# Altium footprint library EugenesLib.PcbLib: 14 footprints
Each footprint in its own frame and in the unit in brackets; x right, y up, seen from the top. Pads: shape width x height; smd on the part's side, far side on the other; paste and mask are expansions set on the pad; w line width, h text height; cw(c..) or ccw(c..) is an arc to the next point about the centre after c.
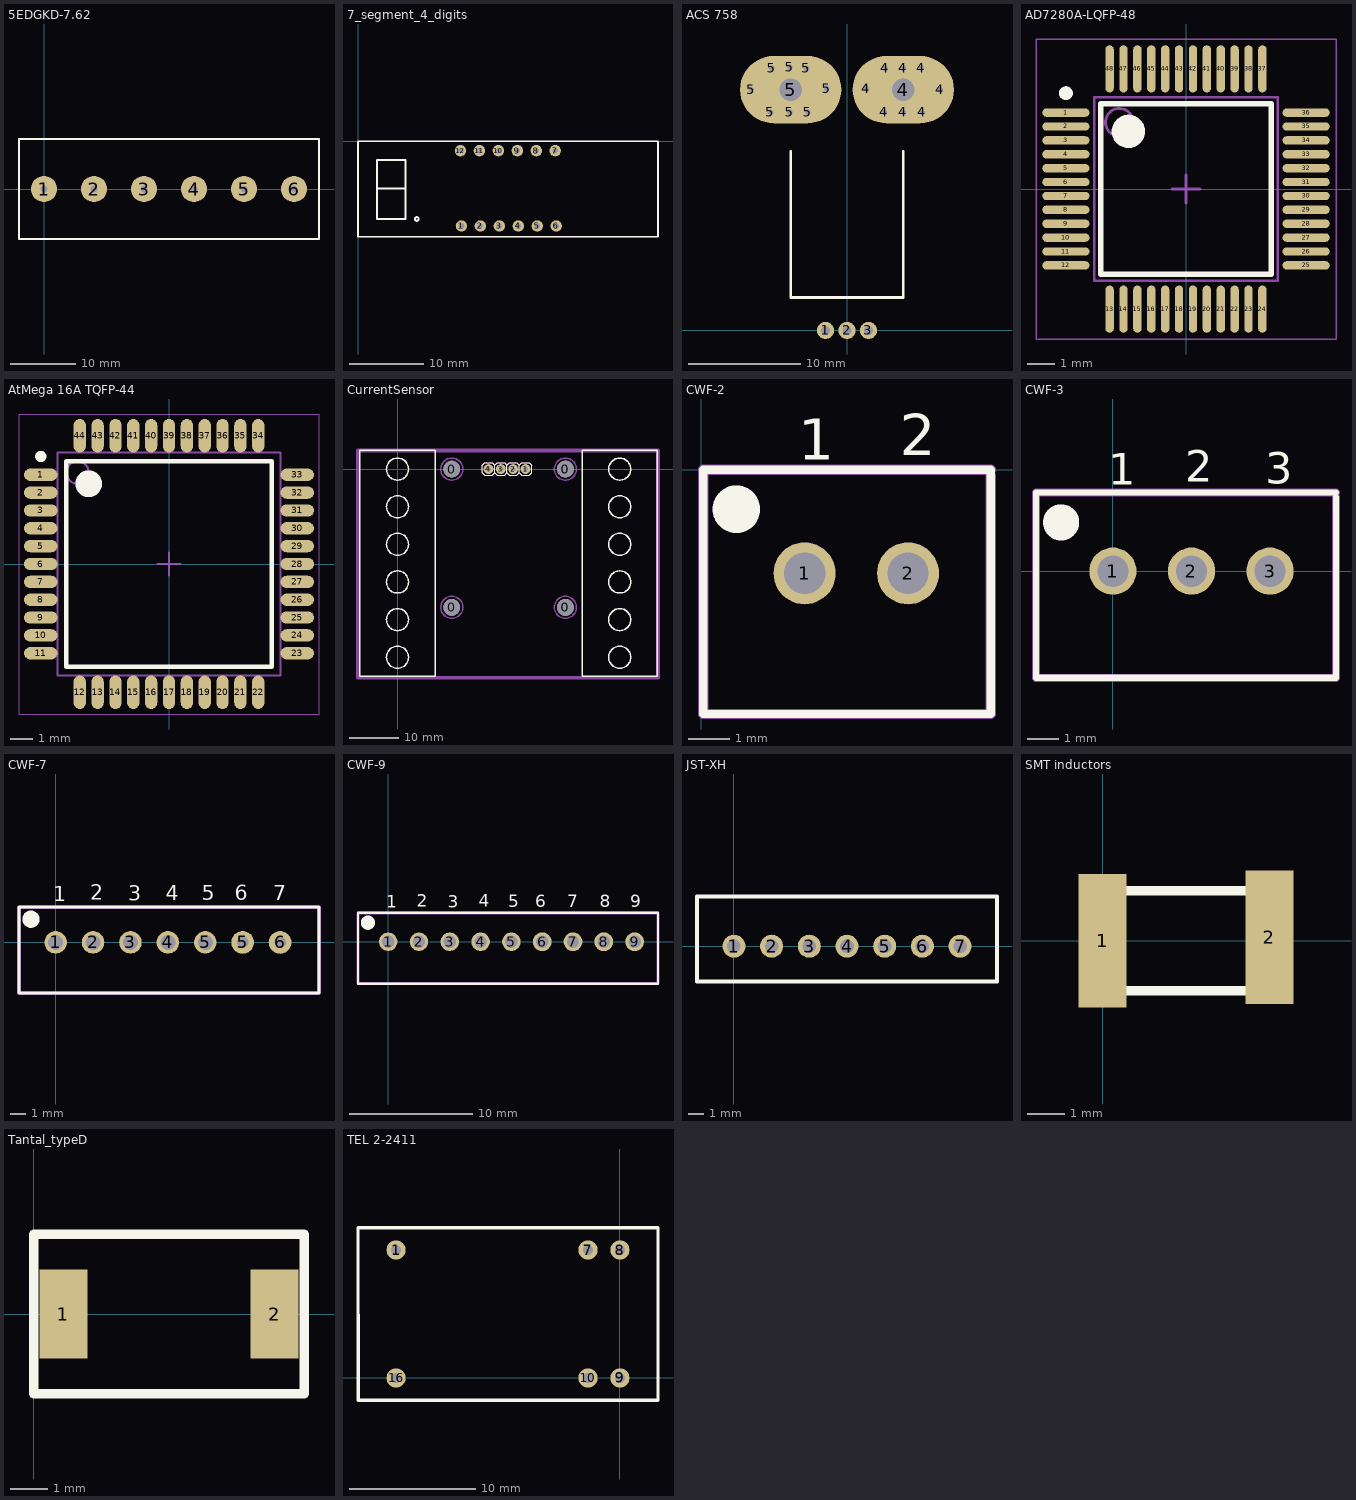
[diagram p0: the footprints below, top view; thin cyan lines are the x and y axes]

## 5EDGKD-7.62 [mm]
pads (6):
  round 4 hole 1: 1(0,0) 2(7.62,0) 3(15.24,0) 4(22.86,0) 5(30.48,0) 6(38.1,0)
Top Overlay:
  lines w0.254: -3.81,-7.62 41.91,-7.62 41.91,7.62 -3.81,7.62 -3.81,-7.62

## 7_segment_4_digits [mil]
pads (12):
  round 60 hole 30: 1(545.28,-446.85) 2(645.28,-446.85) 3(745.28,-446.85) 4(845.28,-446.85) 5(945.28,-446.85) 6(1045.28,-446.85) 7(1040,-50) 8(940,-50) 9(840,-50) 10(740,-50) 11(640,-50) 12(540,-50)
Top Overlay:
  circle w10: c310,-410 r10
  lines w10: 100,-250 245,-250 ; 0,-503.94 0,0 1581.89,0 1581.89,-503.94 0,-503.94 ; 100,-410 100,-100 250,-100 250,-410 100,-410

## ACS 758 [mm] "ACS 758"
height 7
pads (21):
  round 1.524 hole 0.8: 1(-1.91,0) 2(0,0) 3(1.91,0)
  round 1.524 hole 0.5: 4(1.7,21.5) 4(3.3,19.4) 4(3.4,23.3) 4(5,19.4) 4(5,23.3) 4(6.6,23.3) 4(6.7,19.4) 4(8.3,21.4) 5(-8.5,21.4) 5(-6.8,19.4) 5(-6.7,23.3) 5(-5.1,19.4) 5(-5.1,23.4) 5(-3.6,23.3) 5(-3.5,19.4) 5(-1.8,21.5)
  rrect100% 9x6 hole 2 square: 4(5,21.4) 5(-5,21.4)
Top Overlay:
  lines w0.254: -5,15.921 -5,2.921 5,2.921 5,15.921
3D body "ACS758.STEP": height 7, standoff -3.5, extent -7,-0.254 7,22.096

## AD7280A-LQFP-48 [mm] "AD7280A-LQFP-48"
height 1.6
pads (48):
  oval 1.7x0.3 smd: 1(-4.325,2.75) 2(-4.325,2.25) 3(-4.325,1.75) 4(-4.325,1.25) 5(-4.325,0.75) 6(-4.325,0.25) 7(-4.325,-0.25) 8(-4.325,-0.75) 9(-4.325,-1.25) 10(-4.325,-1.75) 11(-4.325,-2.25) 12(-4.325,-2.75) 25(4.325,-2.75) 26(4.325,-2.25) 27(4.325,-1.75) 28(4.325,-1.25) 29(4.325,-0.75) 30(4.325,-0.25) 31(4.325,0.25) 32(4.325,0.75) 33(4.325,1.25) 34(4.325,1.75) 35(4.325,2.25) 36(4.325,2.75)
  oval 0.3x1.7 smd: 13(-2.75,-4.325) 14(-2.25,-4.325) 15(-1.75,-4.325) 16(-1.25,-4.325) 17(-0.75,-4.325) 18(-0.25,-4.325) 19(0.25,-4.325) 20(0.75,-4.325) 21(1.25,-4.325) 22(1.75,-4.325) 23(2.25,-4.325) 24(2.75,-4.325) 37(2.75,4.325) 38(2.25,4.325) 39(1.75,4.325) 40(1.25,4.325) 41(0.75,4.325) 42(0.25,4.325) 43(-0.25,4.325) 44(-0.75,4.325) 45(-1.25,4.325) 46(-1.75,4.325) 47(-2.25,4.325) 48(-2.75,4.325)
Top Overlay:
  circle w0.6: c-2.075,2.075 r0.3
  circle w0.25: c-4.325,3.45 r0.125
  lines w0.2: -3.075,-3.075 3.075,-3.075 3.075,3.075 -3.075,3.075 -3.075,-3.075
Mechanical 13:
  circle w0.1: c-2.4,2.4 r0.5
  lines w0.1: -3.3,-3.3 3.3,-3.3 3.3,3.3 -3.3,3.3 -3.3,-3.3
Mechanical 15:
  lines w0.05: -5.4,-5.4 5.4,-5.4 5.4,5.4 -5.4,5.4 -5.4,-5.4
  lines w0.1: -0.5,0 0.5,0 ; 0,-0.5 0,0.5
3D body "AD7280A-LQFP-48.step": height 1.6, standoff 0, extent -4.5,-4.5 4.5,4.5

## AtMega 16A TQFP-44 [mm] "TQFP, 44-Leads, Body 10,00x10,00mm, Pitch 0,80mm, IPC Medium Density"
height 1.2
pads (44):
  oval 1.5x0.55 smd: 1(-5.75,4) 2(-5.75,3.2) 3(-5.75,2.4) 4(-5.75,1.6) 5(-5.75,0.8) 6(-5.75,0) 7(-5.75,-0.8) 8(-5.75,-1.6) 9(-5.75,-2.4) 10(-5.75,-3.2) 11(-5.75,-4) 23(5.75,-4) 24(5.75,-3.2) 25(5.75,-2.4) 26(5.75,-1.6) 27(5.75,-0.8) 28(5.75,0) 29(5.75,0.8) 30(5.75,1.6) 31(5.75,2.4) 32(5.75,3.2) 33(5.75,4)
  oval 0.55x1.5 smd: 12(-4,-5.75) 13(-3.2,-5.75) 14(-2.4,-5.75) 15(-1.6,-5.75) 16(-0.8,-5.75) 17(0,-5.75) 18(0.8,-5.75) 19(1.6,-5.75) 20(2.4,-5.75) 21(3.2,-5.75) 22(4,-5.75) 34(4,5.75) 35(3.2,5.75) 36(2.4,5.75) 37(1.6,5.75) 38(0.8,5.75) 39(0,5.75) 40(-0.8,5.75) 41(-1.6,5.75) 42(-2.4,5.75) 43(-3.2,5.75) 44(-4,5.75)
Top Overlay:
  circle w0.25: c-5.75,4.825 r0.125
  circle w0.6: c-3.6,3.6 r0.3
  lines w0.2: -4.6,-4.6 -4.6,4.6 4.6,4.6 4.6,-4.6 -4.6,-4.6
Mechanical 13:
  circle w0.1: c-4.1,4.1 r0.5
  lines w0.1: -5,-5 -5,5 5,5 5,-5 -5,-5
Mechanical 15:
  lines w0.05: -6.725,-6.725 -6.725,6.725 6.725,6.725 6.725,-6.725 -6.725,-6.725
  lines w0.1: -0.5,0 0.5,0 ; 0,-0.5 0,0.5
3D body "AtMega 16A TQFP-44.step": height 1.2, standoff 0, extent -6,-6 6,6

## CurrentSensor [mm]
pads (8):
  round 3.4 hole 3.4 unplated: 0(11,-28) 0(11,0) 0(34,-28) 0(34,0)
  round 2 hole 1: 1(25.92,0) 2(23.42,0) 3(20.92,0) 4(18.42,0)
Top Overlay:
  circle w0.254: c45,-38.1 r2.236
  circle w0.254: c45,-30.48 r2.236
  circle w0.254: c45,-22.86 r2.236
  circle w0.254: c45,-15.24 r2.236
  circle w0.254: c45,-7.62 r2.236
  circle w0.254: c45,0 r2.236
  circle w0.254: c0,-38.1 r2.236
  circle w0.254: c0,-30.48 r2.236
  circle w0.254: c0,-22.86 r2.236
  circle w0.254: c0,-15.24 r2.236
  circle w0.254: c0,-7.62 r2.236
  circle w0.254: c0,0 r2.236
  lines w0.2: 19.67,-0.75 19.67,0.75 ; 19.67,-0.75 19.17,-1.25 17.67,-1.25 17.17,-0.75 17.17,0.75 17.67,1.25 19.17,1.25 19.67,0.75 ; 19.67,-0.75 20.17,-1.25 21.67,-1.25 22.17,-0.75 ; 19.67,0.75 20.17,1.25 21.67,1.25 22.17,0.75 ; 22.17,-0.75 22.67,-1.25 24.17,-1.25 24.67,-0.75 ; 22.17,-0.75 22.17,0.75 ; 22.17,0.75 22.67,1.25 24.17,1.25 24.67,0.75 ; 24.67,-0.75 24.67,0.75 ; 24.67,-0.75 25.17,-1.25 26.67,-1.25 27.17,-0.75 27.17,0.75 26.67,1.25 25.17,1.25 24.67,0.75
  lines w0.254: -7.62,-41.91 -7.62,3.81 7.62,3.81 7.62,-41.91 -7.62,-41.91 ; 37.38,-41.91 37.38,3.81 52.62,3.81 52.62,-41.91 37.38,-41.91
Mechanical 1:
  circle w0.254: c11,0 r2.236
  circle w0.254: c34,0 r2.236
  circle w0.254: c34,-28 r2.236
  circle w0.254: c11,-28 r2.236
  lines w0.8: -8,-42.25 52.75,-42.25 52.75,3.75 -8,3.75 -8,-42.25
Mechanical 4:
  lines w0.2: 19.69,-0.75 20.19,-1.25 21.69,-1.25 22.19,-0.75 ; 19.69,-0.75 19.69,0.75 ; 19.69,-0.75 19.19,-1.25 17.69,-1.25 17.19,-0.75 17.19,0.75 17.69,1.25 19.19,1.25 19.69,0.75 ; 19.69,-0.75 19.69,0.75 ; 19.69,0.75 20.19,1.25 21.69,1.25 22.19,0.75 ; 22.19,-0.75 22.69,-1.25 24.19,-1.25 24.69,-0.75 ; 22.19,-0.75 22.19,0.75 ; 22.19,-0.75 22.19,0.75 ; 22.19,0.75 22.69,1.25 24.19,1.25 24.69,0.75 ; 24.69,-0.75 25.19,-1.25 26.69,-1.25 27.19,-0.75 27.19,0.75 26.69,1.25 25.19,1.25 24.69,0.75 ; 24.69,-0.75 24.69,0.75 ; 24.69,-0.75 24.69,0.75
3D body "User Library-PLS-1.STEP": height 8.44, standoff -3, extent 17.07,-1.27 19.61,1.27
3D body "User Library-PLS-1.STEP": height 8.44, standoff -3, extent 24.65,-1.27 27.19,1.27
3D body "User Library-PLS-1.STEP": height 8.44, standoff -3, extent 22.11,-1.27 24.65,1.27
3D body "User Library-PLS-1.STEP": height 8.44, standoff -3, extent 19.57,-1.27 22.11,1.27

## CWF-2 [mm]
pads (2):
  round 1.5 hole 1: 1(2.5,-2.5) 2(5,-2.5)
Top Overlay:
  circle w0.75: c0.85,-0.95 r0.2
  lines w0.2: 0.05,-5.9 7,-5.9 7,0 0.05,0 0.05,-5.9
  text "2" at 4.8,0.35 h1
  text "1" at 2.35,0.25 h1
Mechanical 4:
  lines w0.25: 7,-0.15 7,-5.9 0.05,-5.9 0.05,0 7,0
  text ".Designator" at 0.4,-4.9 h2.15

## CWF-3 [mm]
pads (3):
  round 1.5 hole 1: 1(0,0) 2(2.5,0) 3(5,0)
Top Overlay:
  circle w0.75: c-1.65,1.55 r0.2
  lines w0.2: 7.1,2.35 7.1,-3.4 -2.45,-3.4 -2.45,2.5 7.1,2.5
  text "1" at -0.15,2.75 h1
  text "2" at 2.3,2.85 h1
  text "3" at 4.85,2.775 h1
Mechanical 4:
  lines w0.25: 7.1,2.35 7.1,-3.4 -2.45,-3.4 -2.45,2.5 7.1,2.5
  text ".Designator" at -2.1,-2.4 h2.15

## CWF-7 [mm]
pads (7):
  round 1.5 hole 1: 1(0,0) 2(2.5,0) 3(5,0) 4(7.5,0) 5(10,0)
  round 1.524 hole 0.762: 5(12.5,0) 6(15,0)
Top Overlay:
  circle w0.75: c-1.65,1.55 r0.2
  lines w0.2: -2.45,-3.4 -2.45,2.35 9.95,2.35 17.6,2.35 17.6,-3.4 -2.45,-3.4
  text "7" at 14.554,2.819 h1
  text "6" at 11.954,2.819 h1
  text "1" at -0.15,2.75 h1
  text "2" at 2.3,2.85 h1
  text "3" at 4.85,2.775 h1
  text "4" at 7.35,2.825 h1
  text "5" at 9.754,2.819 h1
Mechanical 4:
  lines w0.25: -2.45,-3.4 17.6,-3.4 17.6,2.35 9.95,2.35 -2.45,2.35 -2.45,-3.4
  text ".Designator" at 0.7,-2 h2.15
3D body "cwf-5.STEP": height 7, standoff -2.35, extent -2.55,-3.375 12.35,2.375

## CWF-9 [mm]
pads (9):
  round 1.5 hole 1: 1(0,0) 2(2.5,0) 3(5,0) 4(7.5,0) 5(10,0)
  round 1.524 hole 1: 6(12.5,0) 7(15,0) 8(17.5,0) 9(20,0)
Top Overlay:
  circle w0.75: c-1.65,1.55 r0.2
  lines w0.2: -2.45,-3.4 -2.45,2.35 9.95,2.35 21.9,2.35 21.9,-3.4 -2.45,-3.4
  text "9" at 19.654,2.819 h1
  text "8" at 17.154,2.819 h1
  text "7" at 14.554,2.819 h1
  text "6" at 11.954,2.819 h1
  text "1" at -0.15,2.75 h1
  text "2" at 2.3,2.85 h1
  text "3" at 4.85,2.775 h1
  text "4" at 7.35,2.825 h1
  text "5" at 9.754,2.819 h1
Mechanical 4:
  lines w0.25: -2.45,-3.4 21.9,-3.4 21.9,2.35 9.95,2.35 -2.45,2.35 -2.45,-3.4
  text ".Designator" at 0.7,-2 h2.15
3D body "cwf-5.STEP": height 7, standoff -2.35, extent -2.55,-3.375 12.35,2.375

## JST-XH [mil]
height 275.59
pads (7):
  round 60 hole 35.43: 1(0,0) 2(98.43,0) 3(196.85,0) 4(295.28,0) 5(393.7,0) 6(492.13,0) 7(590.55,0)
Top Overlay:
  lines w10: 685.04,-92.52 -96.46,-92.52 -96.46,129.92 687.01,129.92 687.01,-92.52
3D body "B7B-XH-A.STEP": height 275.59, standoff -133.86, extent -96.45,-93.5 687.01,132.88

## SMT inductors [mm]
pads (2):
  rect 1.3x3.6 smd: 1(0,0) 2(4.5,0.1)
Top Overlay:
  lines w0.254: 4.5,1.3 4.5,-1.35 0,-1.35 0,1.35 4.5,1.35

## Tantal_typeD [mm]
pads (2):
  rect 1.3x2.4 smd: 1(0.8,0) 2(6.5,0)
Top Overlay:
  lines w0.254: 0,-2.15 7.3,-2.15 7.3,2.15 0,2.15 0,-2.15

## TEL 2-2411 [mil]
pads (6):
  round 60 hole 30: 1(-700,400) 7(-100,400) 8(0,400) 9(0,0) 10(-100,0) 16(-700,0)
Top Overlay:
  lines w10: -818.9,469.69 118.9,469.69 118.9,-69.69 -818.11,-69.69 -818.9,469.69
3D body "TEL 2-2411.SLDPRT": height 300, standoff 0, extent -822.83,-72.83 114.18,466.55